# EAGLE library part ROTARY_ENCODER_SOCKET (library AkizukiRotary_Encoder)
Akizuki RotaryEncoder RGB
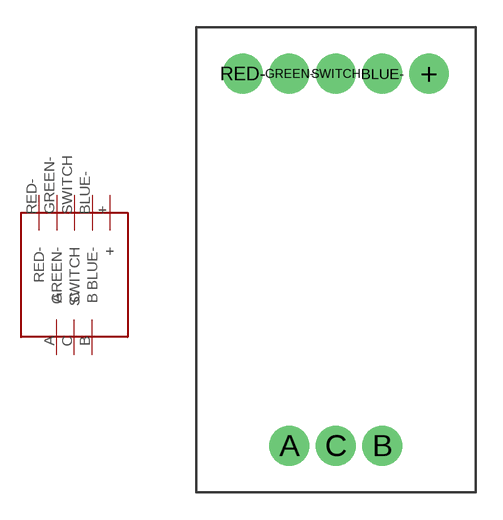
[diagram p0: symbol with the pads of ROTARY_ENCODER; footprint ROTARY_ENCODER]

Designator prefix CONNECTOR

## ROTARY_ENCODER_SOCKET  [ROTARY_ENCODER]
+  +
A  A
B  B
BLUE-  BLUE-
C  C
GREEN-  GREEN-
RED-  RED-
SWITCH  SWITCH

## Footprint ROTARY_ENCODER (pad centres in mm)
Akizuki Rotary Encoder RGB Rotary Encoder
drill 1 pad 2.184: + 5.08,20.32; A -2.54,0; B 2.54,0; BLUE- 2.54,20.32; C 0,0; GREEN- -2.54,20.32; RED- -5.08,20.32; SWITCH 0,20.32